# Altium footprint library Misc.PcbLib: 5 footprints
Each footprint in its own frame and in the unit in brackets; x right, y up, seen from the top. Pads: shape width x height; smd on the part's side, far side on the other; paste and mask are expansions set on the pad; w line width, h text height; cw(c..) or ccw(c..) is an arc to the next point about the centre after c.
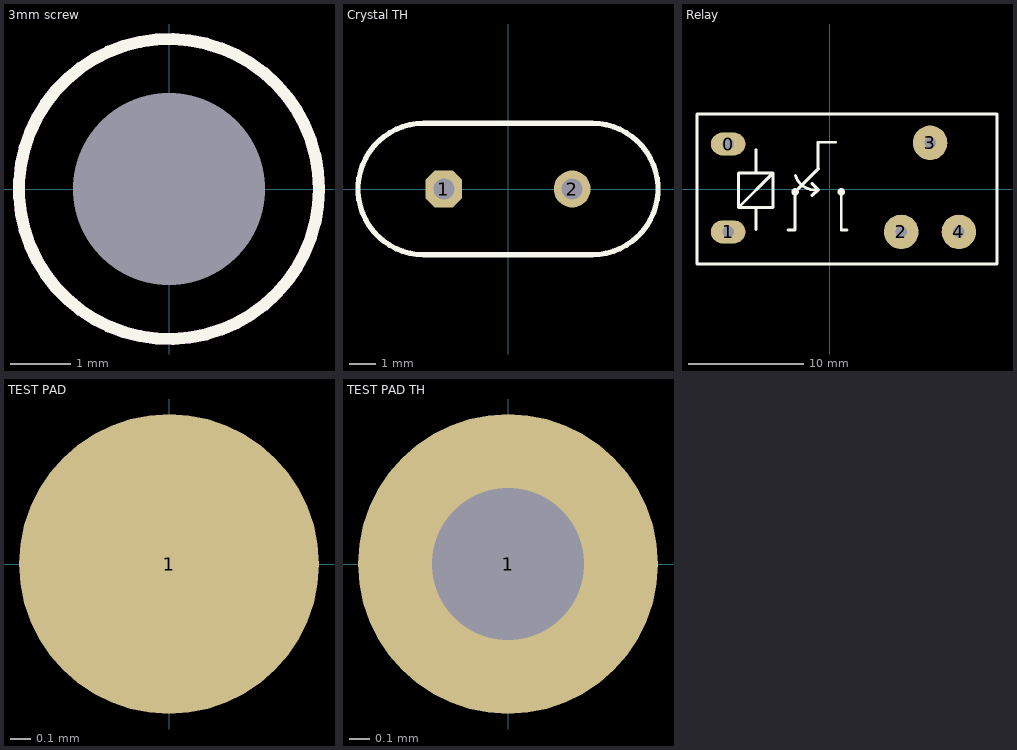
[diagram p0: the footprints below, top view; thin cyan lines are the x and y axes]

## 3mm screw [mm]
height 3
pads (1):
  round 0 hole 3.2 unplated: 3(0,0)
Top Overlay:
  circle w0.2: c0,0 r2.5
Bottom Overlay:
  circle w0.2: c0,0 r2.5
Keep-Out Layer:
  circle w0.2: c0,0 r2.5

## Crystal TH [mm] "Quartz Crystal, Thru-Hole; 2 Leads; Body 11.35 x 4.65 x 13.46 mm (LxWxH max)"
height 13.46
pads (2):
  oct 1.4x1.4 hole 0.8: 1(-2.44,0)
  round 1.4 hole 0.8: 2(2.44,0)
Top Overlay:
  lines w0.2: -3.2,-2.5 cw(c-3.2,0) -3.2,2.5 3.2,2.5 cw(c3.2,0) 3.2,-2.5 -3.2,-2.5
3D body "XTAL-HP49US.SLDPRT": height 3.5, standoff -3, extent -5.675,-2.3 5.675,2.35

## Relay [mm] "Relay 24V"
height 25
pads (5):
  oval 3x2 hole 1: 0(-8.8,3.9) 1(-8.8,-3.72)
  round 3 hole 1: 2(6.2,-3.72) 3(8.7,4) 4(11.2,-3.72)
Top Overlay:
  circle w0.254: c1,-0.25 r0.2
  circle w0.254: c-3,-0.25 r0.2
  lines w0.254: -6.4,-3.5 -6.4,-1.6 ; -6.4,1.4 -6.4,3.4 ; -3.6,-3.55 -3,-3.55 ; -3,-0.25 -3,-2.75 -3,-3.55 ; -2.968,1.165 ccw(c-1.281,1.695) -1,-0.05 ; 0.5,4.05 -1,4.05 -1,1.75 ; 1,-0.25 1,-3.55 1.5,-3.55 ; -7.9,-1.6 -7.9,1.4 -4.9,1.4 ; -7.9,-1.6 -4.9,-1.6 -4.9,1.4 ; -7.9,-1.6 -4.9,1.4 ; -3,-3.55 -3,-3.55 ; -1,1.75 -1,1.75 ; -11.5,-6.5 -11.5,6.5 14.5,6.5 14.5,-6.5 -11.5,-6.5
  lines w0.3: -3,-0.25 -1,1.75 ; -1.5,-0.55 -1,-0.05 ; -1.5,0.45 -1,-0.05 ; -1,-0.05 -1,-0.05 ; -1,1.75 -1,1.75
3D body: height 15.5, standoff 0, extent -11.5,-6.5 14.45,6.5

## TEST PAD [mm]
pads (1):
  round 1.5 smd: 1(0,0)

## TEST PAD TH [mm]
pads (1):
  round 1.5 hole 0.762: 1(0,0)